# EAGLE library part LED_DRIVERBOARD (library Parts)
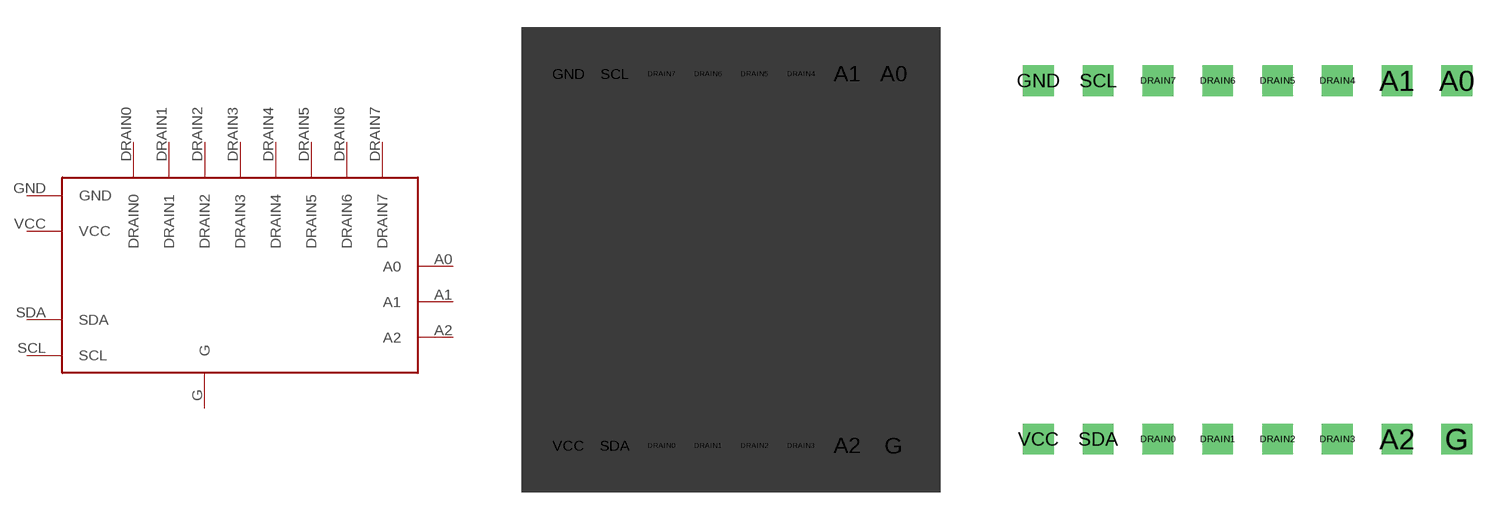
[diagram p3: symbol with the pads of DRIVER_BOARD; footprints DRIVER_BOARD, DRIVER_BOARD_ADAFRUIT]

Designator prefix -

## LED_DRIVERBOARD  [DRIVER_BOARD]
A0  A0
A1  A1
A2  A2
DRAIN0  DRAIN0
DRAIN1  DRAIN1
DRAIN2  DRAIN2
DRAIN3  DRAIN3
DRAIN4  DRAIN4
DRAIN5  DRAIN5
DRAIN6  DRAIN6
DRAIN7  DRAIN7
G  G
GND  GND
SCL  SCL
SDA  SDA
VCC  VCC

## LED_DRIVERBOARDADAFRUIT  [DRIVER_BOARD_ADAFRUIT]
Pads as for DRIVER_BOARD

## Footprint DRIVER_BOARD (pad centres in mm)
drill 0.8 square: A0 8.89,10.16; A1 6.35,10.16; A2 6.35,-10.16; DRAIN0 -3.81,-10.16; DRAIN1 -1.27,-10.16; DRAIN2 1.27,-10.16; DRAIN3 3.81,-10.16; DRAIN4 3.81,10.16; DRAIN5 1.27,10.16; DRAIN6 -1.27,10.16; DRAIN7 -3.81,10.16; G 8.89,-10.16; GND -8.89,10.16; SCL -6.35,10.16; SDA -6.35,-10.16; VCC -8.89,-10.16

## Footprint DRIVER_BOARD_ADAFRUIT (pad centres in mm)
drill 0.8 square: A0 8.89,7.62; A1 6.35,7.62; A2 6.35,-7.62; DRAIN0 -3.81,-7.62; DRAIN1 -1.27,-7.62; DRAIN2 1.27,-7.62; DRAIN3 3.81,-7.62; DRAIN4 3.81,7.62; DRAIN5 1.27,7.62; DRAIN6 -1.27,7.62; DRAIN7 -3.81,7.62; G 8.89,-7.62; GND -8.89,7.62; SCL -6.35,7.62; SDA -6.35,-7.62; VCC -8.89,-7.62